# Altium footprint library Resistors.PcbLib: 22 footprints (part 2 of 2)
Each footprint in its own frame and in the unit in brackets; x right, y up, seen from the top. Pads: shape width x height; smd on the part's side, far side on the other; paste and mask are expansions set on the pad; w line width, h text height; cw(c..) or ccw(c..) is an arc to the next point about the centre after c.
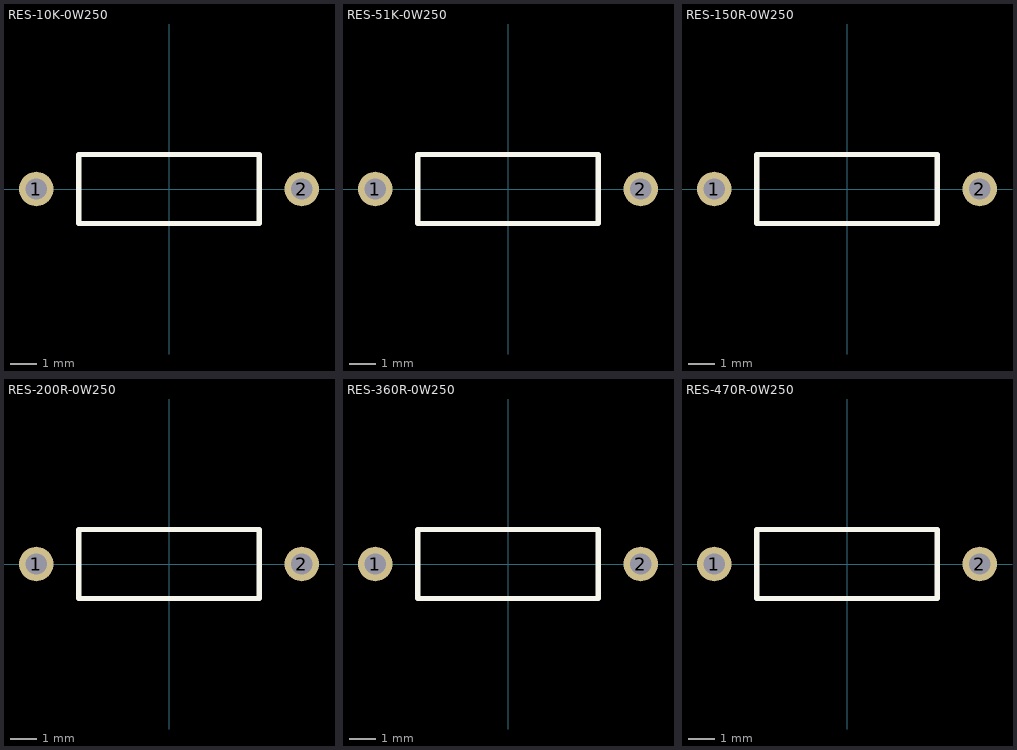
[diagram p1: the footprints below, top view; thin cyan lines are the x and y axes]

## RES-10K-0W250 [mm]
pads (2):
  round 1.3 hole 0.8 paste-2539.97: 1(-5,0) 2(5,0)
Top Overlay:
  lines w0.2: -3.4,-1.3 3.4,-1.3 ; -3.4,-1.3 -3.4,1.3 ; -3.4,-1.3 3.4,-1.3 ; -3.4,-1.3 -3.4,1.3 ; -3.4,1.3 3.4,1.3 ; -3.4,1.3 3.4,1.3 ; 3.4,-1.3 3.4,1.3 ; 3.4,-1.3 3.4,1.3
Top Designator:
  text ".Designator" at -3.647,-0.357 h1
3D body "10K.STEP": height 3.1, standoff -1.3, extent -5.303,-1.201 5.357,1.201

## RES-51K-0W250 [mm]
pads (2):
  round 1.3 hole 0.8 paste-2539.97: 1(-5,0) 2(5,0)
Top Overlay:
  lines w0.2: -3.4,-1.3 -3.4,1.3 ; -3.4,-1.3 3.4,-1.3 ; -3.4,-1.3 3.4,-1.3 ; -3.4,-1.3 -3.4,1.3 ; -3.4,1.3 3.4,1.3 ; -3.4,1.3 3.4,1.3 ; 3.4,-1.3 3.4,1.3 ; 3.4,-1.3 3.4,1.3
Top Designator:
  text ".Designator" at -3.647,-0.357 h1
3D body "51K.STEP": height 3.1, standoff -1.3, extent -5.303,-1.201 5.357,1.201

## RES-150R-0W250 [mm]
pads (2):
  round 1.3 hole 0.8 paste-2539.97: 1(-5,0) 2(5,0)
Top Overlay:
  lines w0.2: -3.4,-1.3 3.4,-1.3 ; -3.4,-1.3 -3.4,1.3 ; -3.4,-1.3 3.4,-1.3 ; -3.4,-1.3 -3.4,1.3 ; -3.4,1.3 3.4,1.3 ; -3.4,1.3 3.4,1.3 ; 3.4,-1.3 3.4,1.3 ; 3.4,-1.3 3.4,1.3
Top Designator:
  text ".Designator" at -3.647,-0.357 h1
3D body "150R.STEP": height 3.1, standoff -1.3, extent -5.303,-1.201 5.357,1.201

## RES-200R-0W250 [mm]
pads (2):
  round 1.3 hole 0.8 paste-2539.97: 1(-5,0) 2(5,0)
Top Overlay:
  lines w0.2: -3.4,-1.3 -3.4,1.3 ; -3.4,-1.3 3.4,-1.3 ; -3.4,-1.3 -3.4,1.3 ; -3.4,-1.3 3.4,-1.3 ; -3.4,1.3 3.4,1.3 ; -3.4,1.3 3.4,1.3 ; 3.4,-1.3 3.4,1.3 ; 3.4,-1.3 3.4,1.3
Top Designator:
  text ".Designator" at -3.647,-0.357 h1
3D body "200R.STEP": height 3.1, standoff -1.3, extent -5.303,-1.201 5.357,1.201

## RES-360R-0W250 [mm]
pads (2):
  round 1.3 hole 0.8 paste-2539.97: 1(-5,0) 2(5,0)
Top Overlay:
  lines w0.2: -3.4,-1.3 3.4,-1.3 ; -3.4,-1.3 -3.4,1.3 ; -3.4,-1.3 3.4,-1.3 ; -3.4,-1.3 -3.4,1.3 ; -3.4,1.3 3.4,1.3 ; -3.4,1.3 3.4,1.3 ; 3.4,-1.3 3.4,1.3 ; 3.4,-1.3 3.4,1.3
Top Designator:
  text ".Designator" at -3.647,-0.357 h1
3D body "360R.STEP": height 3.1, standoff -1.3, extent -5.303,-1.201 5.357,1.201

## RES-470R-0W250 [mm]
pads (2):
  round 1.3 hole 0.8 paste-2539.97: 1(-5,0) 2(5,0)
Top Overlay:
  lines w0.2: -3.4,-1.3 3.4,-1.3 ; -3.4,-1.3 -3.4,1.3 ; -3.4,-1.3 -3.4,1.3 ; -3.4,-1.3 3.4,-1.3 ; -3.4,1.3 3.4,1.3 ; -3.4,1.3 3.4,1.3 ; 3.4,-1.3 3.4,1.3 ; 3.4,-1.3 3.4,1.3
Top Designator:
  text ".Designator" at -3.647,-0.357 h1
3D body "470R.STEP": height 3.1, standoff -1.3, extent -5.303,-1.201 5.357,1.201